# Altium footprint library Galio-complete.PcbLib: 31 footprints (part 1 of 2)
Each footprint in its own frame and in the unit in brackets; x right, y up, seen from the top. Pads: shape width x height; smd on the part's side, far side on the other; paste and mask are expansions set on the pad; w line width, h text height; cw(c..) or ccw(c..) is an arc to the next point about the centre after c.
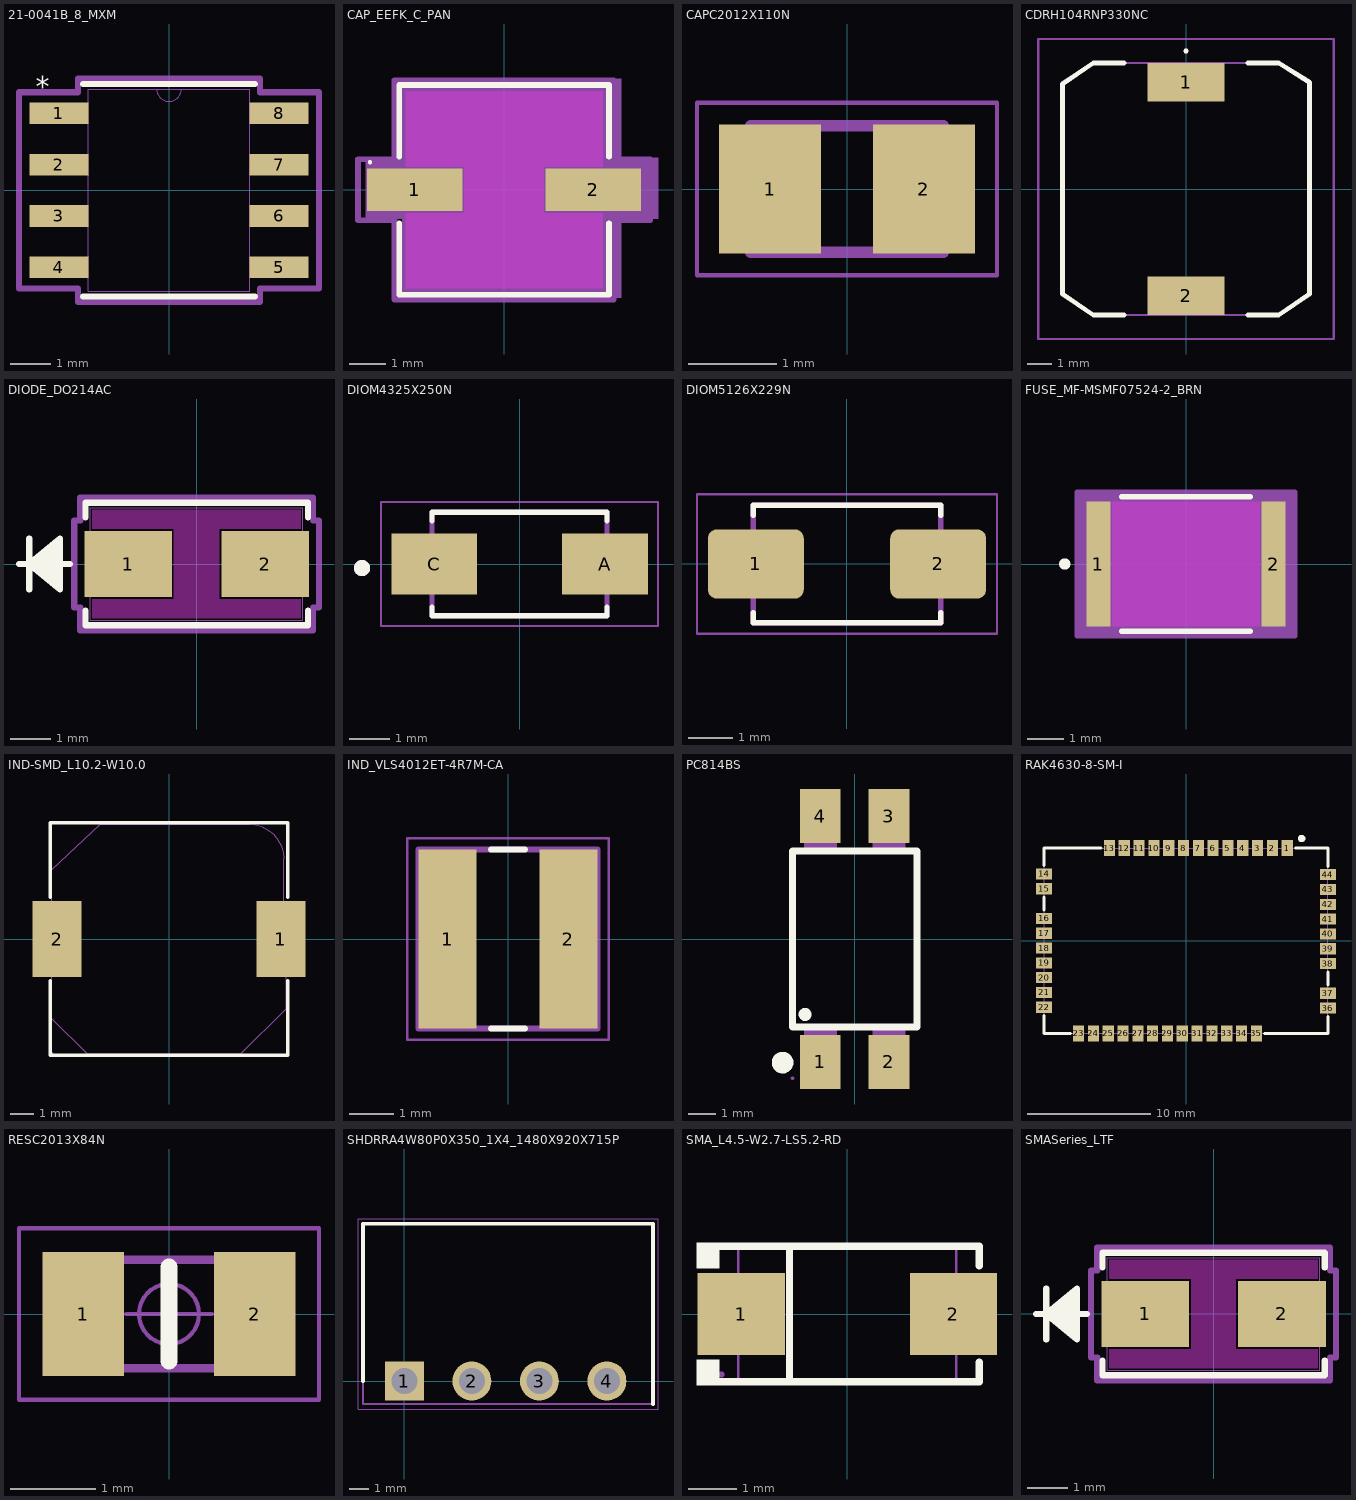
[diagram p0: the footprints below, top view; thin cyan lines are the x and y axes]

## 21-0041B_8_MXM [mil]
pads (8):
  rect 57.5x21 smd paste+0 mask+0: 1(-107.25,75) 2(-107.25,25) 3(-107.25,-25) 4(-107.25,-75) 5(107.25,-75) 6(107.25,-25) 7(107.25,25) 8(107.25,75)
Top Overlay:
  lines w6: -83.5,-103.5 83.5,-103.5 ; -83.5,103.5 83.5,103.5
  text "*" at -129.75,91 h20
Mechanical 13:
  lines w1: -12,98.5 ccw(c0,98.5) 12,98.5 ; -122,-84.5 -78.5,-84.5 -78.5,-65.5 -122,-65.5 -122,-84.5 ; -122,-34.5 -78.5,-34.5 -78.5,-15.5 -122,-15.5 -122,-34.5 ; -122,15.5 -78.5,15.5 -78.5,34.5 -122,34.5 -122,15.5 ; -122,65.5 -78.5,65.5 -78.5,84.5 -122,84.5 -122,65.5 ; -78.5,-98.5 -78.5,98.5 78.5,98.5 78.5,-98.5 -78.5,-98.5 ; 78.5,-84.5 122,-84.5 122,-65.5 78.5,-65.5 78.5,-84.5 ; 78.5,-34.5 122,-34.5 122,-15.5 78.5,-15.5 78.5,-34.5 ; 78.5,15.5 122,15.5 122,34.5 78.5,34.5 78.5,15.5 ; 78.5,65.5 122,65.5 122,84.5 78.5,84.5 78.5,65.5
Mechanical 15:
  lines w6: -146,-95.5 -88.5,-95.5 -88.5,-108.5 88.5,-108.5 88.5,-95.5 146,-95.5 146,95.5 88.5,95.5 88.5,108.5 -88.5,108.5 -88.5,95.5 -146,95.5 -146,-95.5
3D body "21-0041B_8_MXM.step": height 69.09, standoff 0, extent -122.01,-98.5 122.01,98.5

## CAP_EEFK_C_PAN [mil]
pads (2):
  rect 103x46 smd paste+0 mask+0: 1(-96.5,0) 2(96.5,0)
Top Layer keep-out:
  region: -106.5,-106.5 -106.5,-25 106.5,-25 106.5,-106.5
  region: -106.5,25 -106.5,106.5 106.5,106.5 106.5,25
  region: -43,-25 -43,25 43,25 43,-25
Top Overlay:
  circle w4: c-145,30 r0.4
  lines w6: -113.5,-36.1 -113.5,-113.5 113.5,-113.5 113.5,-36.1 ; -113.5,36.1 -113.5,113.5 113.5,113.5 113.5,36.1
Keep-Out Layer:
  region: -43,-25 -43,25 43,25 43,-25
Mechanical 13:
  lines w1: -108.5,-54.25 -54.25,-108.5 ; -108.5,54.25 -54.25,108.5 ; -108.5,-108.5 -108.5,108.5 108.5,108.5 108.5,-108.5 -108.5,-108.5
Mechanical 15:
  region: -110,-31 -149.5,-31 -149.5,35 -110,35 -110,120.5 127,120.5 127,35 166.5,35 166.5,-31 127,-31 127,-116.5 -110,-116.5
  lines w6: -158,-33 -118.5,-33 -118.5,-118.5 118.5,-118.5 118.5,-33 158,-33 158,33 118.5,33 118.5,118.5 -118.5,118.5 -118.5,33 -158,33 -158,-33
3D body "CAP_EEFK_C_PAN.step": height 242.09, standoff 0, extent -127.99,-108.5 127.99,108.5

## CAPC2012X110N [mm]
pads (2):
  rect 1.16x1.47 smd paste+0 mask+0.102: 1(-0.875,0) 2(0.875,0)
Mechanical 13:
  lines w0.127: -1.1,-0.72 1.1,-0.72 1.1,0.72 -1.1,0.72 -1.1,-0.72
Mechanical 15:
  lines w0.05: -1.708,-0.983 1.708,-0.983 1.708,0.983 -1.708,0.983 -1.708,-0.983
3D body "step_temp.STEP": height 1.1, standoff 0, extent -1,-0.625 1,0.625

## CDRH104RNP330NC [mm]
pads (2):
  rect 3.2x1.6 smd: 1(0,4.45) 2(0,-4.45)
Top Overlay:
  lines w0.1: 0,5.7 ccw(c0,5.75) 0,5.8 ccw(c0,5.75) 0,5.7
  lines w0.2: -2.575,-5.25 -3.863,-5.25 -5.15,-4.375 -5.15,4.375 -3.863,5.25 -2.575,5.25 ; 2.575,-5.25 3.863,-5.25 5.15,-4.375 5.15,4.45 3.863,5.25 2.575,5.25
Mechanical 15:
  lines w0.1: -5.15,4.375 -5.15,-4.375 -3.863,-5.25 3.863,-5.25 5.15,-4.375 5.15,4.45 3.863,5.25 -3.863,5.25 -5.15,4.45
Mechanical 20:
  lines w0.1: -6.15,-6.25 6.15,-6.25 6.15,6.25 -6.15,6.25 -6.15,-6.25
3D body "CDRH105R.step": height 4.8, standoff 0, extent -5.127,-5.1 5.073,5.1

## DIODE_DO214AC [mil] "Diodo Schottky 1A 40V -- AA"
pads (2):
  rect 85.59x65 smd paste+0 mask+0: 1(-67.11,0) 2(67.11,0)
Top Layer keep-out:
  region: -22.32,-34.5 -22.32,34.5 22.32,34.5 22.32,-34.5
  region: -102,34.5 -102,53 102,53 102,34.5
  region: -102,-53 -102,-34.5 102,-34.5 102,-53
Top Overlay:
  lines w6: -174,0 -124,0 ; -164,-25 -164,25 ; -134,-20 -164,0 ; -134,-15 -164,0 ; -134,-10 -164,0 ; -134,-5 -164,0 ; -134,5 -164,0 ; -134,10 -164,0 ; -134,15 -164,0 ; -134,20 -164,0 ; -109,-45.6 -109,-60 109,-60 109,-45.6 ; -109,45.6 -109,60 109,60 109,45.6 ; -164,0 -134,25 -134,-25 -164,0
Keep-Out Layer:
  region: -22.32,-34.5 -22.32,34.5 22.32,34.5 22.32,-34.5
Mechanical 13:
  lines w1: -174,0 -124,0 ; -164,-25 -164,25 ; -134,-20 -164,0 ; -134,-15 -164,0 ; -134,-10 -164,0 ; -134,-5 -164,0 ; -134,5 -164,0 ; -134,10 -164,0 ; -134,15 -164,0 ; -134,20 -164,0 ; -164,0 -134,25 -134,-25 -164,0 ; -104,-55 104,-55 104,55 -104,55 -104,-55
Mechanical 15:
  lines w6: -119.91,-42.5 -119.91,42.5 -114,42.5 -114,65 114,65 114,42.5 119.91,42.5 119.91,-42.5 114,-42.5 114,-65 -114,-65 -114,-42.5 -119.91,-42.5
3D body "DIODE_DO214AC.step": height 92.01, standoff 0, extent -104.02,-55 104.02,55

## DIOM4325X250N [mm]
height 2.5
pads (2):
  rect 2.12x1.5 smd: A(2.115,0) C(-2.115,0)
Top Overlay:
  circle w0.2: c-3.9,-0.1 r0.1
  lines w0.127: -2.165,-1.07 -2.165,-1.28 2.165,-1.28 2.165,-1.07 ; -2.165,1.07 -2.165,1.28 2.165,1.28 2.165,1.07
Mechanical 13:
  circle w0.2: c-3.9,-0.1 r0.1
  lines w0.127: -2.165,-1.28 -2.165,1.28 2.165,1.28 2.165,-1.28 -2.165,-1.28
Mechanical 15:
  lines w0.05: -3.425,-1.53 -3.425,1.53 3.425,1.53 3.425,-1.53 -3.425,-1.53
3D body "step_temp.STEP": height 2.4, standoff 0, extent -2.605,-1.302 2.605,1.302

## DIOM5126X229N [mm] "Diode TVS Bi-Dir 30V 400W DO214AC"
pads (2):
  rrect25% 2.17x1.57 smd paste+0 mask+0.102: 1(-2.065,0) 2(2.065,0)
Top Overlay:
  lines w0.127: -2.123,-1.105 -2.123,-1.332 2.123,-1.332 2.123,-1.105 ; -2.123,1.105 -2.123,1.332 2.123,1.332 2.123,1.105
Mechanical 13:
  lines w0.127: -2.123,-1.332 2.123,-1.332 2.123,1.332 -2.123,1.332 -2.123,-1.332
Mechanical 15:
  lines w0.05: -3.4,-1.582 3.4,-1.582 3.4,1.582 -3.4,1.582 -3.4,-1.582
3D body "SMAJ30CA.STEP": height 2.4, standoff 0, extent -2.478,-1.429 2.732,1.175

## FUSE_MF-MSMF07524-2_BRN [mil]
pads (2):
  rect 25.78x134 smd paste+0 mask+0: 1(-93.89,0) 2(93.89,0)
Top Layer keep-out:
  region: -79,-65 -79,65 79,65 79,-65
Top Overlay:
  circle w6: c-130,0 r3
  lines w6: -68.89,-72 68.89,-72 ; -68.89,72 68.89,72
Keep-Out Layer:
  region: -79,-67 -79,67 79,67 79,-67
Mechanical 13:
  circle w1: c-83,0 r3
  lines w1: -93,-67 -93,67 ; -93,-67 -81,-67 -81,67 -93,67 ; -93,-67 93,-67 ; -93,-67 -93,67 ; -93,67 93,67 ; 93,-67 81,-67 81,67 93,67 ; 93,-67 93,67 ; 93,-67 93,67
Mechanical 15:
  region: 116.78,-77 -116.78,-77 -116.78,77 116.78,77
  lines w6: -116.78,-77 -116.78,77 116.78,77 116.78,-77 -116.78,-77
3D body "FUSE_MF-MSMF07524-2_BRN.step": height 32.99, standoff 0, extent -92.99,-67.01 92.99,67.01

## IND-SMD_L10.2-W10.0 [mm]
pads (2):
  rect 2.124x3.32 smd: 1(4.878,0) 2(-4.878,0)
Top Overlay:
  lines w0.152: -5.176,-1.812 -5.176,-5.076 5.176,-5.076 5.176,-1.812 ; -5.176,1.812 -5.176,5.076 5.176,5.076 5.176,1.812
Mechanical 15:
  region: 5.1,-1.45 5.1,1.45 3.9,1.45 3.9,-1.45
  region: -5.1,-1.45 -5.1,1.45 -3.9,1.45 -3.9,-1.45
  region: -5.04,-5 -5.04,-5.025 -5.075,-5.06 -5.125,-5.06 -5.16,-5.025 -5.16,-5 -5.16,-4.975 -5.125,-4.94 -5.075,-4.94 -5.04,-4.975
  lines w0.051: -5.1,-3.48 -3.57,-5.01 2.97,-5.01 3.12,-5.01 5.1,-3.03 5.1,1.5 5,1.5 5,3.503 ccw(c4.997,3.503) 4.999,3.505 4.969,3.789 4.89,4.071 4.749,4.332 4.557,4.564 4.329,4.751 4.072,4.889 3.79,4.97 3.502,5 -3,5 -5.09,3.05 -5.1,3.03 -5.1,-3.45 -5.1,-3.48
3D body "CDRH105R.step": height 4.8, standoff 0, extent -5.1,-5.08 5.1,5.12

## IND_VLS4012ET-4R7M-CA [mm]
height 1.2
pads (2):
  rect 1.3x4 smd: 1(-1.35,0) 2(1.35,0)
Top Overlay:
  lines w0.127: -0.38,-2 0.38,-2 ; -0.38,2 0.38,2
Mechanical 13:
  lines w0.127: -2,-2 -2,2 2,2 2,-2 -2,-2
Mechanical 15:
  lines w0.05: -2.25,-2.25 -2.25,2.25 2.25,2.25 2.25,-2.25 -2.25,-2.25
3D body "step_temp.STEP": height 1.2, standoff 0, extent -2,-2 2,2

## PC814BS [mm]
pads (4):
  rect 1.5x2 smd: 1(-1.27,-4.55) 2(1.27,-4.55) 3(1.27,4.55) 4(-1.27,4.55)
Top Overlay:
  circle w0.254: c-1.834,-2.789 r0.114
  circle w0.4: c-2.667,-4.572 r0.2
  lines w0.254: -2.3,-3.25 -2.3,3.25 2.3,3.25 2.3,-3.25 -2.3,-3.25
Mechanical 6:
  circle w0.5: c-1.27,-3.937 r0.25
Mechanical 15:
  region: 1.67,4.55 0.87,4.55 0.87,5.15 1.67,5.15
  region: 1.87,3.24 0.67,3.24 0.67,4.6 1.87,4.6
  region: 1.67,-5.15 0.87,-5.15 0.87,-4.55 1.67,-4.55
  region: 1.87,-4.6 0.67,-4.6 0.67,-3.24 1.87,-3.24
  region: -0.67,3.24 -1.87,3.24 -1.87,4.6 -0.67,4.6
  region: -0.87,4.55 -1.67,4.55 -1.67,5.15 -0.87,5.15
  region: -0.67,-4.6 -1.87,-4.6 -1.87,-3.24 -0.67,-3.24
  region: -0.87,-5.15 -1.67,-5.15 -1.67,-4.55 -0.87,-4.55
  region: -2.24,-5.15 -2.24,-5.175 -2.275,-5.21 -2.325,-5.21 -2.36,-5.175 -2.36,-5.15 -2.36,-5.125 -2.325,-5.09 -2.275,-5.09 -2.24,-5.125 -2.24,-5.15
  lines w0.051: -2.3,-3.25 -2.3,3.25 2.3,3.25 2.3,-3.25 -2.3,-3.25
3D body "DIP4 Gullwing.STEP": height 3.6, standoff 0, extent -2.3,-4.8 2.3,4.8

## RAK4630-8-SM-I [mm]
pads (44):
  rect 0.9x1.3 smd: 1(8.2,7.5) 2(7,7.5) 3(5.8,7.5) 4(4.6,7.5) 5(3.4,7.5) 6(2.2,7.5) 7(1,7.5) 8(-0.2,7.5) 9(-1.4,7.5) 10(-2.6,7.5) 11(-3.8,7.5) 12(-5,7.5) 13(-6.2,7.5) 23(-8.7,-7.5) 24(-7.5,-7.5) 25(-6.3,-7.5) 26(-5.1,-7.5) 27(-3.9,-7.5) 28(-2.7,-7.5) 29(-1.5,-7.5) 30(-0.3,-7.5) 31(0.9,-7.5) 32(2.1,-7.5) 33(3.3,-7.5) 34(4.5,-7.5) 35(5.7,-7.5)
  rect 1.3x0.9 smd: 14(-11.5,5.41) 15(-11.5,4.21) 16(-11.5,1.81) 17(-11.5,0.61) 18(-11.5,-0.59) 19(-11.5,-1.79) 20(-11.5,-2.99) 21(-11.5,-4.19) 22(-11.5,-5.39) 36(11.5,-5.45) 37(11.5,-4.25) 38(11.5,-1.85) 39(11.5,-0.65) 40(11.5,0.55) 41(11.5,1.75) 42(11.5,2.95) 43(11.5,4.15) 44(11.5,5.35)
Top Overlay:
  circle w0.3: c9.37,8.28 r0.15
  lines w0.254: -11.5,-6.071 -11.5,-7.5 -9.381,-7.5 ; -11.5,2.491 -11.5,3.529 ; -11.5,6.091 -11.5,7.5 -6.881,7.5 ; 6.381,-7.5 11.5,-7.5 11.5,-6.131 ; 8.881,7.5 11.5,7.5 11.5,6.031 ; 11.5,-3.569 11.5,-2.531
Mechanical 15:
  lines w0.051: -11.5,-7.5 11.5,-7.5 11.5,7.5 -11.5,7.5 -11.5,-7.5
3D body "3D_RAK4630.stp": height 3, standoff 0, extent -11.57,-7.5 11.43,7.5

## RESC2013X84N [mm] "Chip Resistor, EIA 0805, Metric 2013, Body 2.03x1.27mm, IPC Medium Density"
height 0.84
pads (2):
  rect 0.95x1.45 smd: 1(-1,0) 2(1,0)
Top Overlay:
  lines w0.2: 0,-0.55 0,0.55
Mechanical 14:
  lines w0.1: -1.015,-0.635 1.015,-0.635 1.015,0.635 -1.015,0.635 -1.015,-0.635
Mechanical 15:
  circle w0.05: c0,0 r0.35
  lines w0.05: -0.5,0 0.5,0 ; 0,-0.5 0,0.5 ; -1.75,-1 1.75,-1 1.75,1 -1.75,1 -1.75,-1
3D body "RESC2013X84N.stp": height 0.84, standoff 0, extent -1.016,-0.635 1.016,0.635

## SHDRRA4W80P0X350_1X4_1480X920X715P [mm]
pads (4):
  rect 2.025x2.025 / inner round 2.025 / far side rect 2.025x2.025 hole 1.35: 1(0,0)
  round 2.025 hole 1.35: 2(3.5,0) 3(7,0) 4(10.5,0)
Top Overlay:
  lines w0.2: -2.15,0 -2.15,8.15 12.9,8.15 12.9,-1.2
Mechanical 15:
  lines w0.1: -2.15,-1.2 -2.15,8.15 12.9,8.15 12.9,-1.2 -2.15,-1.2
Mechanical 20:
  lines w0.05: -2.4,-1.45 13.15,-1.45 13.15,8.4 -2.4,8.4 -2.4,-1.45
3D body "15EDGRC-3.5-04P-14-00AH.stp": height 7.15, standoff -3.7, extent -2.193,-1.143 12.607,8.057

## SMA_L4.5-W2.7-LS5.2-RD [mm]
pads (2):
  rect 1.8x1.7 smd: 1(-2.193,0) 2(2.193,0)
Top Overlay:
  region: -2.65,1.477 -2.65,0.949 -3.107,0.949 -3.107,1.477
  region: -2.65,-1.477 -2.65,-0.949 -3.107,-0.949 -3.107,-1.477
  lines w0.152: -2.726,-1.401 2.726,-1.401 2.726,-1 ; -2.726,1.401 2.726,1.401 2.726,1 ; -1.197,-1.401 -1.197,1.401
Mechanical 6:
  region: -2.451,-0.099 -2.451,0.099 -1.656,0.099 -1.656,-0.099
  region: 2.451,-0.099 2.451,0.099 1.656,0.099 1.656,-0.099
  region: 2.153,-0.663 2.153,0.663 1.954,0.663 1.954,-0.663
Mechanical 15:
  region: -1.403,0.725 -1.403,-0.725 -2.603,-0.725 -2.603,0.725
  region: 1.398,-0.725 1.398,0.725 2.598,0.725 2.598,-0.725
  region: -2.543,-1.25 -2.543,-1.275 -2.578,-1.31 -2.628,-1.31 -2.663,-1.275 -2.663,-1.25 -2.663,-1.225 -2.628,-1.19 -2.578,-1.19 -2.543,-1.225
  lines w0.051: -2.25,-1.35 2.25,-1.35 2.25,1.35 -2.25,1.35 -2.25,-1.35
3D body "Diode SMA.stp": height 2.41, standoff 0, extent -2.64,-1.397 2.64,1.523

## SMASeries_LTF [mil]
pads (2):
  rect 86x65 smd paste+0 mask+0: 1(-67,0) 2(67,0)
Top Layer keep-out:
  region: -102,-53 -102,-34.5 102,-34.5 102,-53
  region: -102,34.5 -102,53 102,53 102,34.5
  region: -22,-34.5 -22,34.5 22,34.5 22,-34.5
Top Overlay:
  lines w6: -174,0 -124,0 ; -164,-25 -164,25 ; -134,-20 -164,0 ; -134,-15 -164,0 ; -134,-10 -164,0 ; -134,-5 -164,0 ; -134,5 -164,0 ; -134,10 -164,0 ; -134,15 -164,0 ; -134,20 -164,0 ; -109,-45.6 -109,-60 109,-60 109,-45.6 ; -109,45.6 -109,60 109,60 109,45.6 ; -164,0 -134,-25 -134,25 -164,0
Keep-Out Layer:
  region: -22,-34.5 -22,34.5 22,34.5 22,-34.5
Mechanical 13:
  lines w1: -174,0 -124,0 ; -164,-25 -164,25 ; -134,-20 -164,0 ; -134,-15 -164,0 ; -134,-10 -164,0 ; -134,-5 -164,0 ; -134,5 -164,0 ; -134,10 -164,0 ; -134,15 -164,0 ; -134,20 -164,0 ; -164,0 -134,-25 -134,25 -164,0 ; -104,-55 -104,55 104,55 104,-55 -104,-55
Mechanical 15:
  lines w6: -120,-42.5 -114,-42.5 -114,-65 114,-65 114,-42.5 120,-42.5 120,42.5 114,42.5 114,65 -114,65 -114,42.5 -120,42.5 -120,-42.5
3D body "SMASeries_LTF.step": height 92.01, standoff 0, extent -104.02,-55 104.02,55